# Altium footprint library INDPM7366X300N.PcbLib: 1 footprints
Each footprint in its own frame and in the unit in brackets; x right, y up, seen from the top. Pads: shape width x height; smd on the part's side, far side on the other; paste and mask are expansions set on the pad; w line width, h text height; cw(c..) or ccw(c..) is an arc to the next point about the centre after c.
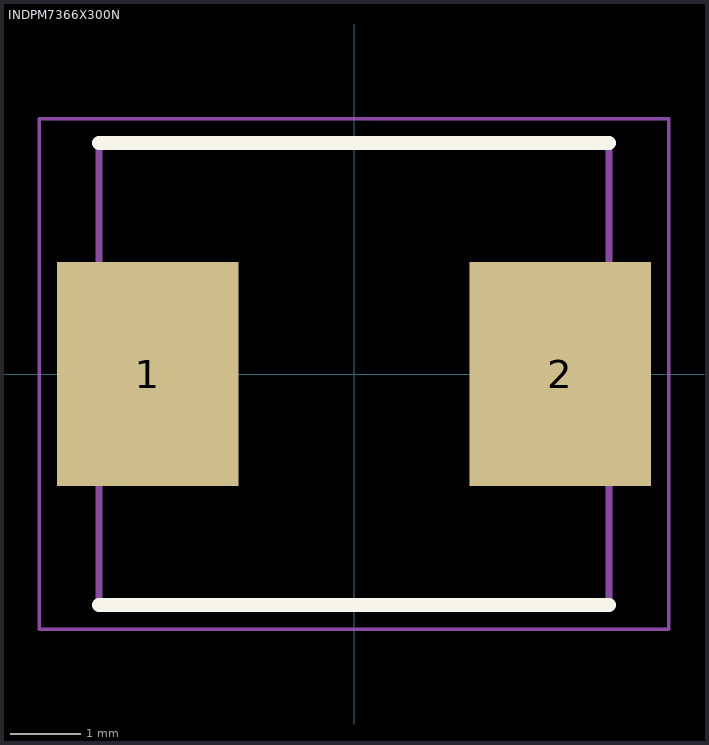
[diagram p0: the footprint, top view; thin cyan lines are the x and y axes]

## INDPM7366X300N [mm]
pads (2):
  rect 2.6x3.2 smd: 1(-2.95,0) 2(2.95,0)
Top Overlay:
  lines w0.2: -3.65,-3.3 3.65,-3.3 ; -3.65,3.3 3.65,3.3
Mechanical 15:
  lines w0.1: -3.65,-3.3 3.65,-3.3 3.65,3.3 -3.65,3.3 -3.65,-3.3
Mechanical 20:
  lines w0.05: -4.5,-3.65 4.5,-3.65 4.5,3.65 -4.5,3.65 -4.5,-3.65